# EAGLE library part LM339 (library TuansLib)
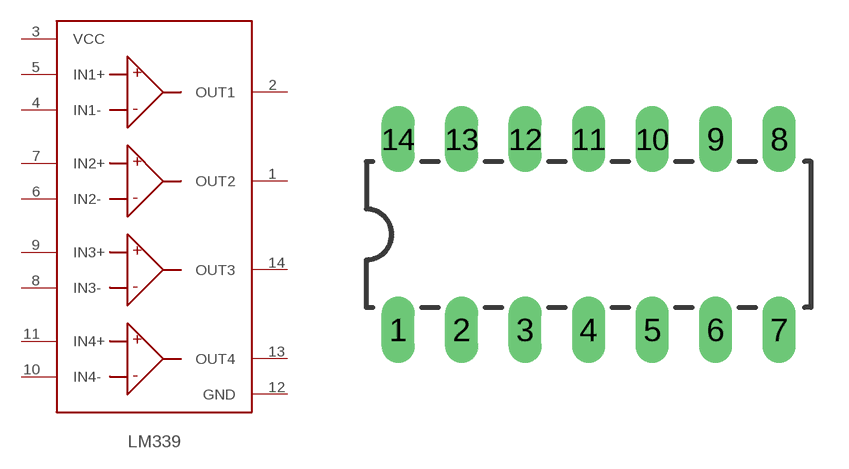
[diagram p9: symbol with the pads of DIL14; footprint DIL14]

Designator prefix -

## LM339  [DIL14]
1  OUT2
2  OUT1
3  VCC
4  IN1-
5  IN1+
6  IN2-
7  IN2+
8  IN3-
9  IN3+
10  IN4-
11  IN4+
12  GND
13  OUT4
14  OUT3

## Footprint DIL14 (pad centres in mm)
drill 0.813 long: 1 -8.89,-3.81; 2 -6.35,-3.81; 3 -3.81,-3.81; 4 -1.27,-3.81; 5 1.27,-3.81; 6 3.81,-3.81; 7 6.35,-3.81; 8 6.35,3.81; 9 3.81,3.81; 10 1.27,3.81; 11 -1.27,3.81; 12 -3.81,3.81; 13 -6.35,3.81; 14 -8.89,3.81